# Altium footprint library PCBLib.PcbLib: 168 footprints (part 2 of 11)
Each footprint in its own frame and in the unit in brackets; x right, y up, seen from the top. Pads: shape width x height; smd on the part's side, far side on the other; paste and mask are expansions set on the pad; w line width, h text height; cw(c..) or ccw(c..) is an arc to the next point about the centre after c.
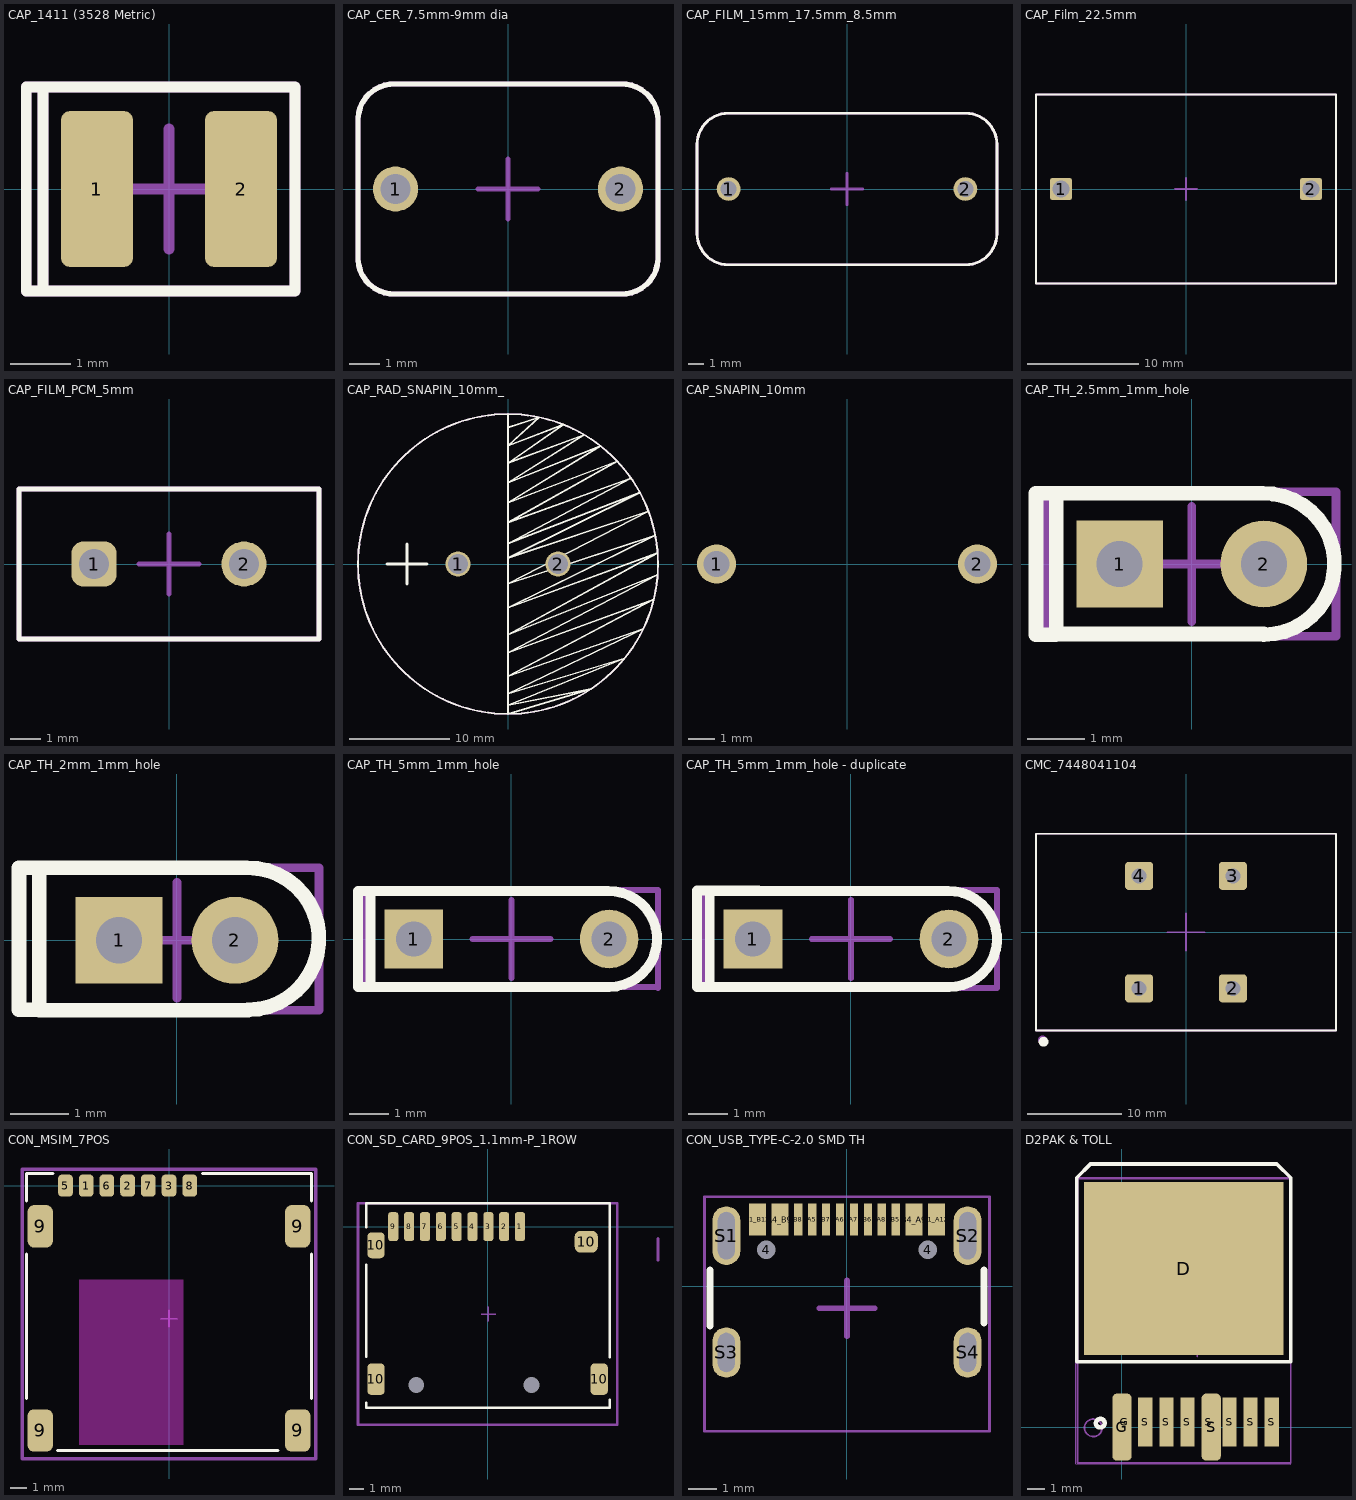
[diagram p1: the footprints below, top view; thin cyan lines are the x and y axes]

## CAP_1411 (3528 Metric) [mm]
pads (2):
  rrect25% 1.2x2.6 smd mask+0.05: 1(-1.2,0) 2(1.2,0)
Top Overlay:
  lines w0.18: -2.1,-1.7 -2.1,1.7 ; -2.38,-1.7 -2.38,1.7 2.1,1.7 2.1,-1.7 -2.38,-1.7
Top Assembly:
  lines w0.18: -2.1,-1.7 -2.1,1.7 ; -2.1,-1.7 2.1,-1.7 2.1,1.7 -2.1,1.7 ; -2.1,-1.7 -2.38,-1.7 -2.38,1.7 -2.1,1.7
Top Component Center:
  lines w0.18: -1,0 1,0 ; 0,-1 0,1
Top Courtyard:
  lines w0.05: -2.1,-1.7 -2.1,1.7 2.1,1.7 2.1,-1.7 -2.1,-1.7
Top Designator:
  text ".Designator" at -3.809,-0.254 h0.76
3D body "F93-C_AVX.step": height 2.16, standoff 0, extent -1.702,-1.499 1.702,1.499

## CAP_CER_7.5mm-9mm dia [mm]
pads (2):
  round 1.5 hole 1 mask+0.05: 1(-3.75,0) 2(3.75,0)
Top Overlay:
  lines w0.18: -5,-2.35 ccw(c-3.8,-2.3) -3.75,-3.5 3.75,-3.5 ccw(c3.8,-2.3) 5,-2.35 5,2.35 ccw(c3.8,2.3) 3.75,3.5 -3.75,3.5 ccw(c-3.8,2.3) -5,2.35 -5,-2.35
Top Assembly:
  lines w0.18: -5,-2.35 ccw(c-3.8,-2.3) -3.75,-3.5 3.75,-3.5 ccw(c3.8,-2.3) 5,-2.35 5,2.35 ccw(c3.8,2.3) 3.75,3.5 -3.75,3.5 ccw(c-3.8,2.3) -5,2.35 -5,-2.35
Top Component Center:
  lines w0.18: -1,0 1,0 ; 0,-1 0,1
Top Courtyard:
  lines w0.18: -5,-2.35 ccw(c-3.8,-2.3) -3.75,-3.5 3.75,-3.5 ccw(c3.8,-2.3) 5,-2.35 5,2.35 ccw(c3.8,2.3) 3.75,3.5 -3.75,3.5 ccw(c-3.8,2.3) -5,2.35 -5,-2.35
3D body "DE6E3KJ222MN3A.step": height 12, standoff -25, extent -4.5,-3.5 4.5,3.5

## CAP_FILM_15mm_17.5mm_8.5mm [mm]
pads (2):
  round 1.5 hole 1 mask+0.05: 1(-7.5,0) 2(7.5,0)
Top Overlay:
  lines w0.18: -9.5,-2.816 ccw(c-7.508,-2.808) -7.5,-4.8 7.5,-4.8 ccw(c7.508,-2.808) 9.5,-2.816 9.5,2.816 ccw(c7.508,2.808) 7.5,4.8 -7.5,4.8 ccw(c-7.508,2.808) -9.5,2.816 -9.5,-2.816
Top Assembly:
  lines w0.18: -9.5,-2.816 ccw(c-7.508,-2.808) -7.5,-4.8 7.5,-4.8 ccw(c7.508,-2.808) 9.5,-2.816 9.5,2.816 ccw(c7.508,2.808) 7.5,4.8 -7.5,4.8 ccw(c-7.508,2.808) -9.5,2.816 -9.5,-2.816
Top Component Center:
  lines w0.18: -1,0 1,0 ; 0,-1 0,1
Top Courtyard:
  lines w0.18: -9.5,-2.816 ccw(c-7.508,-2.808) -7.5,-4.8 7.5,-4.8 ccw(c7.508,-2.808) 9.5,-2.816 9.5,2.816 ccw(c7.508,2.808) 7.5,4.8 -7.5,4.8 ccw(c-7.508,2.808) -9.5,2.816 -9.5,-2.816
Top Designator:
  text ".Designator" at -3.809,-0.254 h0.76
3D body "ECWFD2W125K.step": height 13.1, standoff -23.5, extent -8.75,-4.25 8.75,4.25

## CAP_Film_22.5mm [mm]
pads (2):
  rrect25% 2x2 hole 1.5 mask+0.05: 1(-11.25,0) 2(11.25,0)
Top Overlay:
  lines w0.18: -13.5,-8.5 -13.5,8.5 13.5,8.5 13.5,-8.5 -13.5,-8.5
Top Assembly:
  lines w0.18: -13.5,-8.5 -13.5,8.5 13.5,8.5 13.5,-8.5 -13.5,-8.5
Top Component Center:
  lines w0.18: -1,0 1,0 ; 0,-1 0,1
Top Courtyard:
  lines w0.18: -13.5,-8.5 -13.5,8.5 13.5,8.5 13.5,-8.5 -13.5,-8.5
Top Designator:
  text ".Designator" at -3.809,-0.254 h0.76
3D body "Download_STP_890334026034xx_rev1.stp": height 25.35, standoff -3.65, extent -13,-7.5 13,7.5

## CAP_FILM_PCM_5mm [mm]
pads (2):
  rrect50% 1.5x1.5 hole 1 mask+0.05: 1(-2.5,0)
  round 1.5 hole 1 mask+0.05: 2(2.5,0)
Top Overlay:
  lines w0.18: -5,-2.5 -5,2.5 5,2.5 5,-2.5 -5,-2.5
Top Assembly:
  lines w0.18: -5,-2.5 -5,2.5 5,2.5 5,-2.5 -5,-2.5
Top Component Center:
  lines w0.18: -1,0 1,0 ; 0,-1 0,1
Top Courtyard:
  lines w0.18: -5,-2.5 -5,2.5 5,2.5 5,-2.5 -5,-2.5
Top Designator:
  text ".Designator" at -3.809,-0.254 h0.76
3D body "FKP2O101001D00KSSD.STEP": height 6, standoff -6, extent -3.6,-2.25 3.6,2.25

## CAP_RAD_SNAPIN_10mm_ [mm]
pads (2):
  round 2.5 hole 2 mask+0.05: 1(-5,0) 2(5,0)
Top Overlay:
  circle w0.18: c0,0 r15
  lines w0.18: 0,13.647 3.132,14.669 0,11.823 5.536,13.941 0,10.093 7.628,12.916 0,8.111 9.262,11.799 0,6.13 10.925,10.279 0,4.148 12.3,8.586 0,2.04 13.186,7.151 0,0.593 14.047,5.262 0,-1.986 14.725,2.861 0,-4.377 14.96,1.097 0,-7.082 14.961,-1.074 0,-8.875 14.576,-3.542 0,-11.234 13.53,-6.476 0,-12.964 11.673,-9.42 0,-14.128 8.285,-12.505 0,-15 0,15
  lines w0.3: -12.1,-0.022 -8.1,-0.022 ; -10.1,-2.022 -10.1,1.978
Top Assembly:
  circle w0.18: c0,0 r15
Top Courtyard:
  circle w0.18: c0,0 r15

## CAP_SNAPIN_10mm [mm]
pads (2):
  round 1.5 hole 1 mask+0.05: 1(-5,0) 2(5,0)

## CAP_TH_2.5mm_1mm_hole [mm]
pads (2):
  rect 1.5x1.5 hole 0.8: 1(-1.25,0)
  round 1.5 hole 0.8: 2(1.25,0)
Top Overlay:
  lines w0.254: -2.36,-1.225 -2.7,-1.225 -2.7,-1.225 -2.7,1.225 -2.35,1.225 ; 1.25,-1.225 ccw(c1.25,0) 1.225,1.225 -2.35,1.225 ; 1.25,-1.215 -2.35,-1.215 -2.35,1.225
Top Assembly:
  lines w0.15: -2.5,1.225 -2.475,1.25 2.5,1.25 2.5,-1.25 -2.5,-1.25 -2.5,1.25
Top Component Center:
  lines w0.15: -1,0 1,0 ; 0,-1 0,1
Top Courtyard:
  lines w0.05: -2.5,-1.25 -2.5,1.25 2.5,1.25 2.5,-1.25 -2.5,-1.25
Top Designator:
  text ".Designator" at -3.809,-0.254 h0.76
3D body "CAP_WCAP-ATG8_63x11_WRE.step": height 15.26, standoff -1.22, extent -3.404,-3.4 3.432,3.401

## CAP_TH_2mm_1mm_hole [mm]
pads (2):
  rect 1.5x1.5 hole 0.8: 1(-1,0)
  round 1.5 hole 0.8: 2(1,0)
Top Overlay:
  lines w0.254: -2.385,-1.2 -2.725,-1.2 ; 1.225,-1.206 -2.375,-1.206 -2.375,1.25 ; 1.225,-1.2 ccw(c1.225,0.025) 1.2,1.25 -2.375,1.25 ; -2.725,-1.2 -2.725,-1.2 ; -2.725,-1.2 -2.725,1.25 -2.375,1.25
Top Assembly:
  lines w0.15: -2.375,-1.206 -2.375,1.25 ; -2.375,-1.206 2.449,-1.206 2.449,1.25 -2.375,1.25 ; -2.375,-1.206 -2.719,-1.206 -2.725,-1.2 -2.725,1.25 -2.375,1.25
Top Component Center:
  lines w0.15: -1,0 1,0 ; 0,-1 0,1
Top Courtyard:
  lines w0.05: -2.375,-1.206 -2.375,1.25 2.449,1.25 2.449,-1.206 -2.375,-1.206
Top Designator:
  text ".Designator" at -3.809,-0.254 h0.76
3D body "CAP_WCAP-ATG5_5x11_WRE.step": height 15.26, standoff -1.22, extent -2.771,-2.715 2.771,2.791

## CAP_TH_5mm_1mm_hole [mm]
pads (2):
  rect 1.5x1.5 hole 0.9: 1(-2.5,0)
  round 1.5 hole 0.9: 2(2.5,0)
Top Overlay:
  lines w0.254: -2.36,-1.228 -3.925,-1.228 -3.925,1.233 -2.35,1.233 ; 2.454,1.228 -3.6,1.228 -3.6,-1.224 2.466,-1.224 ; 2.475,1.225 cw(c2.5,0) 2.5,-1.225
Top Assembly:
  lines w0.15: -3.75,-1.228 -3.75,1.233 -3.733,1.25 3.75,1.25 3.75,-1.25 3.728,-1.228 -3.75,-1.228
Top Component Center:
  lines w0.15: -1,0 1,0 ; 0,-1 0,1
Top Courtyard:
  lines w0.05: -3.75,-1.228 -3.75,1.233 -3.733,1.25 3.75,1.25 3.75,-1.25 3.728,-1.228 -3.75,-1.228
Top Designator:
  text ".Designator" at -3.809,-0.254 h0.76
3D body "CAP_WCAP-ATG5_10_0X12_5_WRE.step": height 17.01, standoff -1.45, extent -5.245,-5.233 5.269,5.233

## CAP_TH_5mm_1mm_hole - duplicate [mm]
pads (2):
  rect 1.5x1.5 hole 0.9: 1(-2.5,0)
  round 1.5 hole 0.9: 2(2.5,0)
Top Overlay:
  lines w0.254: -2.36,-1.228 -3.925,-1.228 -3.925,1.233 -2.35,1.233 ; 2.454,1.228 -3.6,1.228 -3.6,-1.224 2.466,-1.224 ; 2.475,1.225 cw(c2.5,0) 2.5,-1.225
Top Assembly:
  lines w0.15: -3.75,1.233 -3.733,1.25 3.725,1.25 3.725,-1.25 -3.75,-1.25 -3.75,1.25
Top Component Center:
  lines w0.15: -1,0 1,0 ; 0,-1 0,1
Top Courtyard:
  lines w0.05: -3.75,-1.25 3.725,-1.25 3.725,1.25 -3.75,1.25 -3.75,-1.25
Top Designator:
  text ".Designator" at -3.809,-0.254 h0.76
3D body "CAP_WCAP-ATG8_13x20_WRE.step": height 24.25, standoff -1.45, extent -6.756,-6.753 6.792,6.753

## CMC_7448041104 [mm]
pads (4):
  rrect25% 3x3 hole 1.6 mask+0.05: 1(-5,-6) 2(5,-6) 3(5,6) 4(-5,6)
Top Overlay:
  circle w0.5: c-15.191,-11.695 r0.267
  lines w0.18: -16,-10.5 16,-10.5 16,10.5 -16,10.5 -16,-10.5
Top Assembly:
  circle w0.5: c-15.3,-11.5 r0.224
  lines w0.18: -16,-10.5 -16,10.5 16,10.5 16,-10.5 -16,-10.5
Top Component Center:
  lines w0.18: -2,0 2,0 ; 0,-2 0,2
Top Courtyard:
  lines w0.05: -16,-10.5 -16,10.5 16,10.5 16,-10.5 -16,-10.5
Bottom Courtyard:
  lines w0.05: -16,-10.5 -16,10.5 16,10.5 16,-10.5 -16,-10.5
Top Designator:
  text ".Designator" at -3.809,-0.254 h0.76
3D body "7448041104_Download_STP_7448041104_rev1.stp": height 26.64, standoff -3.75, extent -13.75,-8.95 13.75,9.05

## CON_MSIM_7POS [mm] "MSIM-1-A"
pads (11):
  rrect50% 0.9x1.35 smd: 1(-5.08,0) 2(-2.54,0) 3(0,0) 5(-6.35,0) 6(-3.81,0) 7(-1.27,0) 8(1.27,0)
  rrect50% 1.55x2.6 smd: 9(-7.9,-15.02) 9(-7.9,-2.5) 9(7.9,-15.02) 9(7.9,-2.5)
Top Layer keep-out:
  region: -5.51,-5.77 -5.51,-15.89 0.88,-15.89 0.88,-5.77
Top Overlay:
  lines w0.18: -8.75,-13.045 -8.75,-4.183 ; -8.75,-0.941 -8.75,0.75 -7.124,0.75 ; -6.834,-16.25 6.686,-16.25 ; 2.057,0.75 8.75,0.75 8.75,-0.941 ; 8.75,-13.045 8.75,-4.183
Top Assembly:
  lines w0.2: -9,-16.75 9,-16.75 9,1 -9,1 -9,-16.75
Top Component Center:
  lines w0.1: -0.498,-8.156 0.502,-8.156 ; 0,-8.658 0,-7.658 ; 0.25,-8.158 0.252,-8.156
Top Courtyard:
  lines w0.05: -9,-16.75 9,-16.75 9,1 -9,1 -9,-16.75
Top Designator:
  text ".Designator" at -3.809,-8.41 h0.76
3D body "MSIM-2-A.stp": height 1.67, standoff 0, extent -8.52,-16.83 8.52,0.525

## CON_SD_CARD_9POS_1.1mm-P_1ROW [mm] "MSD-4-A / TF-CARD-H1.8"
pads (15):
  rrect50% 0.7x2 smd: 1(2.25,0) 2(1.15,0) 3(0.05,0) 4(-1.05,0) 5(-2.15,0) 6(-3.25,0) 7(-4.35,0) 8(-5.45,0) 9(-6.55,0)
  rrect50% 1.2x2.2 smd: 10(-7.75,-10.6) 10(7.75,-10.6)
  rrect50% 1.2x1.8 smd: 10(-7.75,-1.3)
  rrect50% 1.6x1.5 smd: 10(6.85,-1.05)
  rrect50% 0x0 hole 1.1 unplated: 13(-4.95,-11) 13(3.05,-11)
Top Overlay:
  lines w0.18: -8.425,-12.23 -8.425,-12.588 8.47,-12.588 8.47,-12.038 ; -8.425,-9.042 -8.425,-2.66 ; -8.425,-0.031 -8.425,1.616 8.47,1.616 8.47,-9.059
Top Assembly:
  lines w0.2: -9,-13.759 9,-13.759 9,1.616 -9,1.616 -9,-13.759
Top Component Center:
  lines w0.1: -0.448,-6.074 0.552,-6.074 ; 0.05,-6.576 0.05,-5.576 ; 0.3,-6.076 0.302,-6.074
  lines w0.2: 11.834,-2.342 11.834,-0.837
Top Courtyard:
  lines w0.05: -9,-13.759 9,-13.759 9,1.616 -9,1.616 -9,-13.759
Top Designator:
  text ".Designator" at -3.759,-6.328 h0.76
3D body "MSD-4-A.stp": height 1.9, standoff -0.61, extent -8.117,-15.034 7.999,0.017

## CON_USB_TYPE-C-2.0 SMD TH [mm]
pads (18):
  round 0.6 hole 0.65 unplated mask+0: 4(-2.89,1.303) 4(2.89,1.303)
  rect 0.6x1.15 smd mask+0: A1_B12(-3.2,2.378) A4_B9(-2.4,2.378) B1_A12(3.2,2.378) B4_A9(2.4,2.378)
  rect 0.3x1.15 smd mask+0: A5(-1.25,2.378) A6(-0.25,2.378) A7(0.25,2.378) A8(1.25,2.378) B5(1.75,2.378) B6(0.75,2.378) B7(-0.75,2.378) B8(-1.75,2.378)
  rrect100% 1x2.1 hole 0.6 slot 1.7 at 90 deg mask+0.05: S1(-4.32,1.803) S2(4.32,1.803)
  rrect100% 1x1.8 hole 0.6 slot 1.4 at 90 deg mask+0.05: S3(-4.32,-2.377) S4(4.32,-2.377)
Top Overlay:
  lines w0.254: -4.9,-1.422 -4.9,0.578 ; 4.9,-1.322 4.9,0.578
Top Assembly:
  lines w0.1: -5.1,-5.2 -5.1,3.2 5.1,3.2 5.1,-5.2 -5.1,-5.2
Top Component Center:
  lines w0.2: -1,-0.8 1,-0.8 ; 0,-1.8 0,0.2
Top Courtyard:
  lines w0.05: -5.1,-5.2 -5.1,3.2 5.1,3.2 5.1,-5.2 -5.1,-5.2
Top Designator:
  text ".Designator" at -3.809,-1.054 h0.76
3D body "USB4105--3DModel-STEP-56544.STEP": height 3.31, standoff -0.85, extent -4.8,-4.978 4.78,2.732

## D2PAK & TOLL [mm]
pads (11):
  rect 11.37x9.87 smd paste-2539.97: D(3.513,9.025)
  rrect50% 1.1x3.82 smd: G(0,0) S(5.08,0)
  rect 0.8x2.8 smd: G(0.126,0.285) S(1.326,0.285) S(2.526,0.285) S(3.726,0.285) S(4.926,0.285) S(6.126,0.285) S(7.326,0.285) S(8.526,0.285)
Top Overlay:
  circle w0.25: c-1.237,0.225 r0.25
  lines w0.2: -2.581,3.725 9.602,3.725 9.602,14.186 8.813,14.975 -1.792,14.975 -2.581,14.186 -2.581,3.725
Top Paste:
  circle w0.5: c3.063,12.925 r0.25
  circle w0.5: c3.063,11.725 r0.25
  circle w0.5: c3.063,10.525 r0.25
  circle w0.5: c3.063,9.325 r0.25
  circle w0.5: c3.063,8.125 r0.25
  circle w0.5: c3.063,6.925 r0.25
  circle w0.5: c3.063,5.725 r0.25
  circle w0.5: c3.063,4.525 r0.25
  circle w0.5: c1.863,12.925 r0.25
  circle w0.5: c1.863,11.725 r0.25
  circle w0.5: c1.863,10.525 r0.25
  circle w0.5: c1.863,9.325 r0.25
  circle w0.5: c1.863,8.125 r0.25
  circle w0.5: c1.863,6.925 r0.25
  circle w0.5: c1.863,5.725 r0.25
  circle w0.5: c1.863,4.525 r0.25
  circle w0.5: c0.663,12.925 r0.25
  circle w0.5: c0.663,11.725 r0.25
  circle w0.5: c0.663,10.525 r0.25
  circle w0.5: c0.663,9.325 r0.25
  circle w0.5: c0.663,8.125 r0.25
  circle w0.5: c0.663,6.925 r0.25
  circle w0.5: c0.663,5.725 r0.25
  circle w0.5: c0.663,4.525 r0.25
  circle w0.5: c4.263,4.525 r0.25
  circle w0.5: c4.263,5.725 r0.25
  circle w0.5: c4.263,6.925 r0.25
  circle w0.5: c4.263,8.125 r0.25
  circle w0.5: c4.263,9.325 r0.25
  circle w0.5: c4.263,10.525 r0.25
  circle w0.5: c4.263,11.725 r0.25
  circle w0.5: c4.263,12.925 r0.25
  circle w0.5: c5.463,4.525 r0.25
  circle w0.5: c5.463,5.725 r0.25
  circle w0.5: c5.463,6.925 r0.25
  circle w0.5: c5.463,8.125 r0.25
  circle w0.5: c5.463,9.325 r0.25
  circle w0.5: c5.463,10.525 r0.25
  circle w0.5: c5.463,11.725 r0.25
  circle w0.5: c5.463,12.925 r0.25
  circle w0.5: c6.663,4.525 r0.25
  circle w0.5: c6.663,5.725 r0.25
  circle w0.5: c6.663,6.925 r0.25
  circle w0.5: c6.663,8.125 r0.25
  circle w0.5: c6.663,9.325 r0.25
  circle w0.5: c6.663,10.525 r0.25
  circle w0.5: c6.663,11.725 r0.25
  circle w0.5: c6.663,12.925 r0.25
  circle w0.5: c-0.537,4.525 r0.25
  circle w0.5: c-0.537,5.725 r0.25
  circle w0.5: c-0.537,6.925 r0.25
  circle w0.5: c-0.537,8.125 r0.25
  circle w0.5: c-0.537,9.325 r0.25
  circle w0.5: c-0.537,10.525 r0.25
  circle w0.5: c-0.537,11.725 r0.25
  circle w0.5: c-0.537,12.925 r0.25
  circle w0.5: c-1.737,4.525 r0.25
  circle w0.5: c-1.737,5.725 r0.25
  circle w0.5: c-1.737,6.925 r0.25
  circle w0.5: c-1.737,8.125 r0.25
  circle w0.5: c-1.737,9.325 r0.25
  circle w0.5: c-1.737,10.525 r0.25
  circle w0.5: c-1.737,11.725 r0.25
  circle w0.5: c-1.737,12.925 r0.25
  circle w0.5: c7.863,4.525 r0.25
  circle w0.5: c7.863,5.725 r0.25
  circle w0.5: c7.863,6.925 r0.25
  circle w0.5: c7.863,8.125 r0.25
  circle w0.5: c7.863,9.325 r0.25
  circle w0.5: c7.863,10.525 r0.25
  circle w0.5: c7.863,11.725 r0.25
  circle w0.5: c7.863,12.925 r0.25
Top Assembly:
  circle w0.1: c-1.631,-0.039 r0.5
  lines w0.1: -2.531,-2.039 9.602,-2.039 9.602,14.175 -2.531,14.175 -2.531,-2.039
Top Component Center:
  lines w0.15: 3.186,5.963 5.186,5.963 ; 4.186,4.963 4.186,6.963
Top Courtyard:
  lines w0.05: -2.637,-2.1 -2.637,14.125 9.602,14.125 9.602,-2.1 -2.637,-2.1
  lines w0.1: 3.788,4.525 4.788,4.525 ; 4.288,4.025 4.288,5.025
Top Designator:
  text ".Designator" at -1.248,6.667 h1
3D body "Infineon-PG-HSOF-8-1_3D_01_STP-Package-v09_00-EN.stp": height 2.31, standoff 0, extent -0.635,-0.6 9.265,11.075
3D body "KTT0002A.stp": height 4.67, standoff 0, extent -2.52,-0.935 7.64,14.135